# Altium footprint library PcbLib1.PcbLib: 1 footprints
Each footprint in its own frame and in the unit in brackets; x right, y up, seen from the top. Pads: shape width x height; smd on the part's side, far side on the other; paste and mask are expansions set on the pad; w line width, h text height; cw(c..) or ccw(c..) is an arc to the next point about the centre after c.
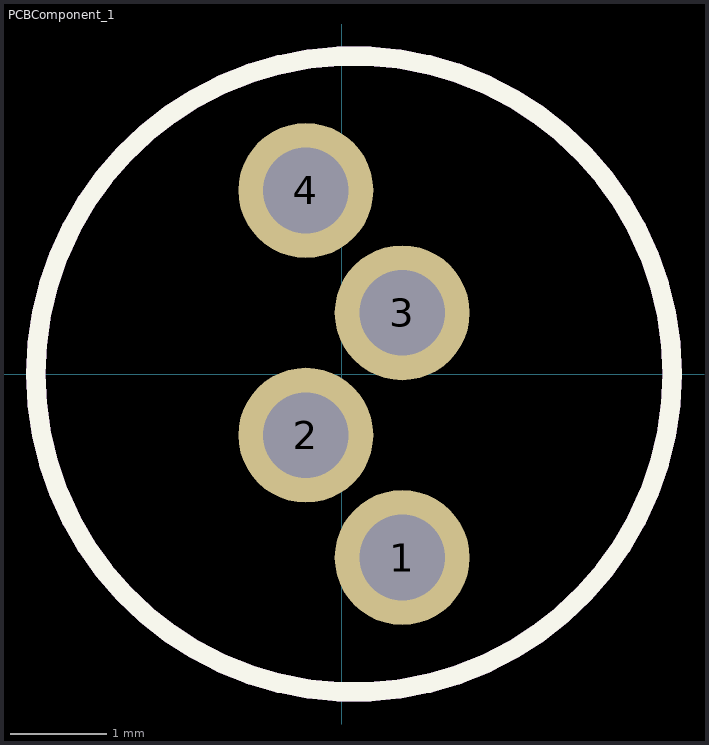
[diagram p0: the footprint, top view; thin cyan lines are the x and y axes]

## PCBComponent_1 [mm]
pads (4):
  round 1.4 hole 0.889: 1(0.627,-1.905) 2(-0.373,-0.635) 3(0.627,0.635) 4(-0.373,1.905)
Top Overlay:
  circle w0.2: c0.127,0 r3.302
Mechanical 13:
  circle w0.2: c0.127,0 r3.302